# Altium footprint library Inductors.PcbLib: 2 footprints
Each footprint in its own frame and in the unit in brackets; x right, y up, seen from the top. Pads: shape width x height; smd on the part's side, far side on the other; paste and mask are expansions set on the pad; w line width, h text height; cw(c..) or ccw(c..) is an arc to the next point about the centre after c.
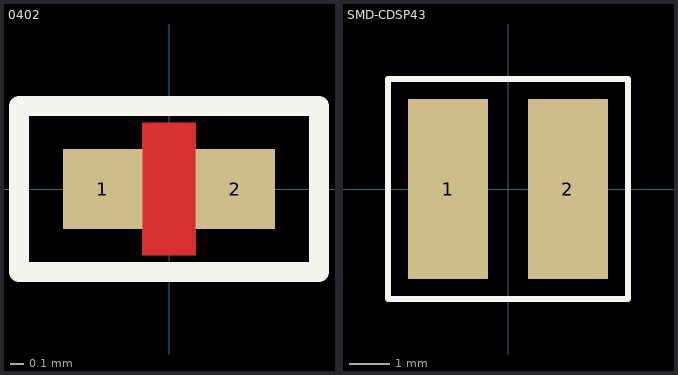
[diagram p0: the footprints below, top view; thin cyan lines are the x and y axes]

## 0402 [mm]
pads (2):
  rect 0.6x0.6 smd: 1(-0.5,0) 2(0.5,0)
Top Layer:
  pour cut-out: -0.2,-0.5 0.2,-0.5 0.2,0.5 -0.2,0.5
Top Overlay:
  lines w0.15: -1.132,-0.627 -1.132,0.627 1.132,0.627 1.132,-0.627 -1.132,-0.627
3D body "L_0402.stp": height 0.52, standoff 0.01, extent -0.508,-0.254 0.508,0.254

## SMD-CDSP43 [mm]
pads (2):
  rect 2x4.5 smd: 1(-1.5,0) 2(1.5,0)
Top Overlay:
  lines w0.15: -3,-2.75 3,-2.75 3,2.75 -3,2.75 -3,-2.75
3D body "SMD_Inductor_CD43.step": height 3.22, standoff -0.01, extent -2.25,-2 2.25,2